# EAGLE library part LM5021MM-1 (library SamacSys_Parts)
AC-DC I-Mode PWM Controller,LM5021MM-1 Source: Datasheet <http://www.ti.com/lit/ds/symlink/lm5021.pdf>
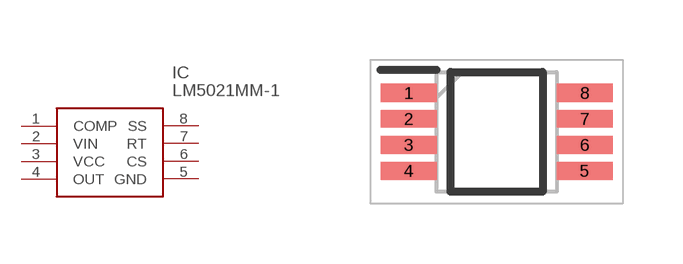
[diagram p7: symbol with the pads of SOP65P490X110-8N; footprint SOP65P490X110-8N]

Designator prefix IC

## LM5021MM-1 (DESCRIPTION: AC-DC I-Mode PWM Controller,LM5021MM-1; HEIGHT: 1.1mm; MANUFACTURER_NAME: Texas Instruments; MANUFACTURER_PART_NUMBER: LM5021MM-1)  [SOP65P490X110-8N]
1  COMP
2  VIN  in
3  VCC  pwr
4  OUT  out
5  GND  pwr
6  CS  in
7  RT
8  SS

## Footprint SOP65P490X110-8N (pad centres in mm)
DGK (S-PDSO-G8)
smd 1.4 x 0.45: 1 -2.2,0.975; 2 -2.2,0.325; 3 -2.2,-0.325; 4 -2.2,-0.975; 5 2.2,-0.975; 6 2.2,-0.325; 7 2.2,0.325; 8 2.2,0.975